# EAGLE library part LPC11U??FBD48 (library carrilib)
48 Pin Cortex M3 /w USB Manufacturer: NXP Part Number: LPC11U??FBD48
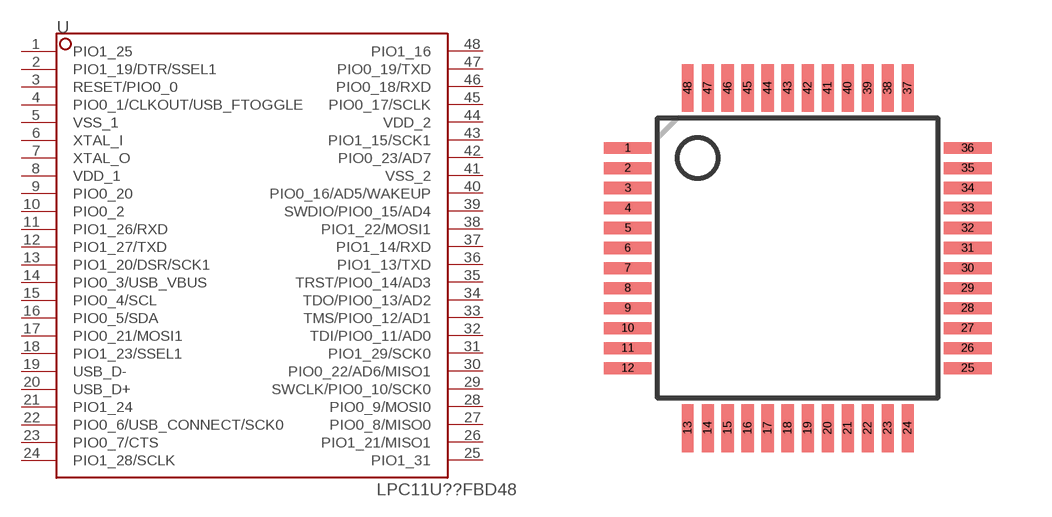
[diagram p4: symbol with the pads of LQFP48; footprint LQFP48]

Designator prefix U

## LPC11UFBD48  [LQFP48]
1  PIO1_25
2  PIO1_19/DTR/SSEL1
3  RESET/PIO0_0
4  PIO0_1/CLKOUT/USB_FTOGGLE
5  VSS_1
6  XTAL_I
7  XTAL_O
8  VDD_1
9  PIO0_20
10  PIO0_2
11  PIO1_26/RXD
12  PIO1_27/TXD
13  PIO1_20/DSR/SCK1
14  PIO0_3/USB_VBUS
15  PIO0_4/SCL
16  PIO0_5/SDA
17  PIO0_21/MOSI1
18  PIO1_23/SSEL1
19  USB_D-
20  USB_D+
21  PIO1_24
22  PIO0_6/USB_CONNECT/SCK0
23  PIO0_7/CTS
24  PIO1_28/SCLK
25  PIO1_31
26  PIO1_21/MISO1
27  PIO0_8/MISO0
28  PIO0_9/MOSI0
29  SWCLK/PIO0_10/SCK0
30  PIO0_22/AD6/MISO1
31  PIO1_29/SCK0
32  TDI/PIO0_11/AD0
33  TMS/PIO0_12/AD1
34  TDO/PIO0_13/AD2
35  TRST/PIO0_14/AD3
36  PIO1_13/TXD
37  PIO1_14/RXD
38  PIO1_22/MOSI1
39  SWDIO/PIO0_15/AD4
40  PIO0_16/AD5/WAKEUP
41  VSS_2
42  PIO0_23/AD7
43  PIO1_15/SCK1
44  VDD_2
45  PIO0_17/SCLK
46  PIO0_18/RXD
47  PIO0_19/TXD
48  PIO1_16

## Footprint LQFP48 (pad centres in mm)
smd 1.2 x 0.3: 1 -4.25,2.75; 2 -4.25,2.25; 3 -4.25,1.75; 4 -4.25,1.25; 5 -4.25,0.75; 6 -4.25,0.25; 7 -4.25,-0.25; 8 -4.25,-0.75; 9 -4.25,-1.25; 10 -4.25,-1.75; 11 -4.25,-2.25; 12 -4.25,-2.75; 25 4.25,-2.75; 26 4.25,-2.25; 27 4.25,-1.75; 28 4.25,-1.25; 29 4.25,-0.75; 30 4.25,-0.25; 31 4.25,0.25; 32 4.25,0.75; 33 4.25,1.25; 34 4.25,1.75; 35 4.25,2.25; 36 4.25,2.75
smd 0.3 x 1.2: 13 -2.75,-4.25; 14 -2.25,-4.25; 15 -1.75,-4.25; 16 -1.25,-4.25; 17 -0.75,-4.25; 18 -0.25,-4.25; 19 0.25,-4.25; 20 0.75,-4.25; 21 1.25,-4.25; 22 1.75,-4.25; 23 2.25,-4.25; 24 2.75,-4.25; 37 2.75,4.25; 38 2.25,4.25; 39 1.75,4.25; 40 1.25,4.25; 41 0.75,4.25; 42 0.25,4.25; 43 -0.25,4.25; 44 -0.75,4.25; 45 -1.25,4.25; 46 -1.75,4.25; 47 -2.25,4.25; 48 -2.75,4.25